# Altium footprint library NRF52832_Ball.PcbLib: 38 footprints (part 2 of 3)
Each footprint in its own frame and in the unit in brackets; x right, y up, seen from the top. Pads: shape width x height; smd on the part's side, far side on the other; paste and mask are expansions set on the pad; w line width, h text height; cw(c..) or ccw(c..) is an arc to the next point about the centre after c.
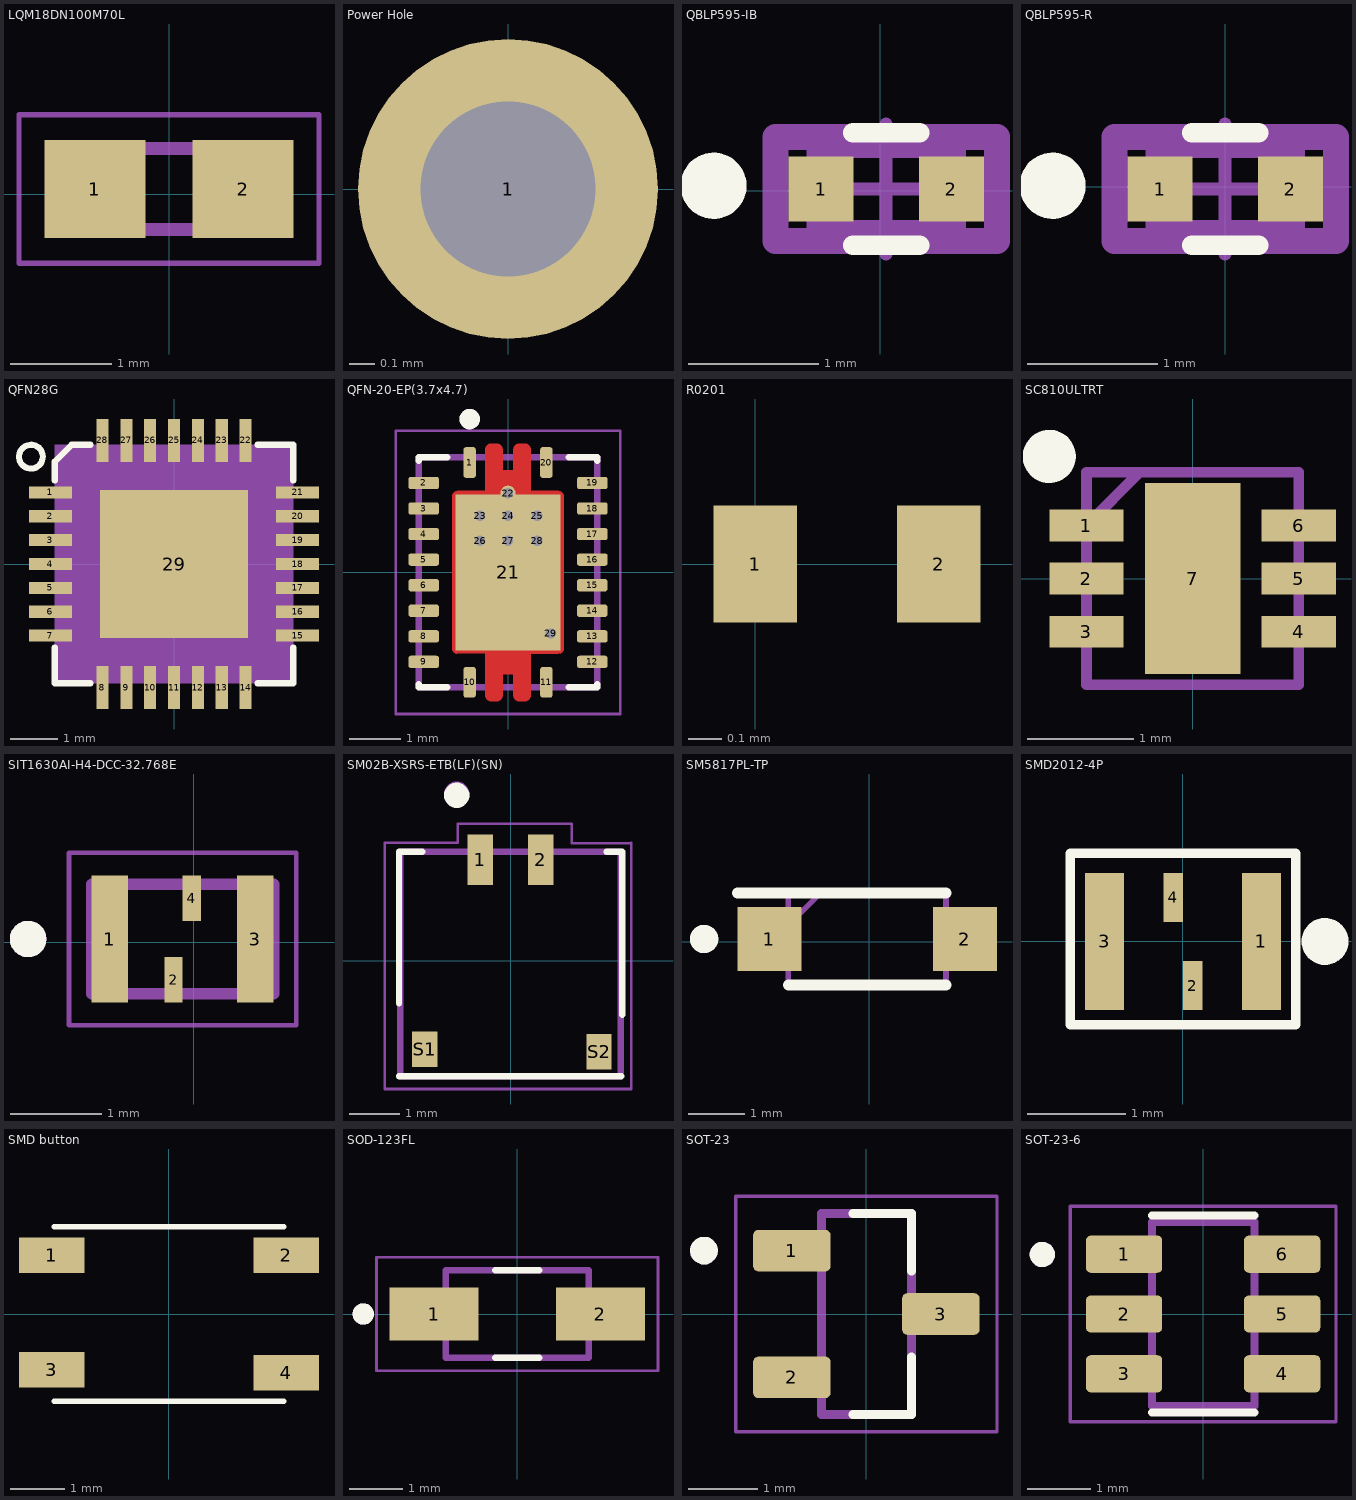
[diagram p1: the footprints below, top view; thin cyan lines are the x and y axes]

## LQM18DN100M70L [mm]
pads (2):
  rect 1x0.97 smd: 1(-0.735,0.054) 2(0.735,0.054)
Mechanical 13:
  lines w0.127: -0.8,-0.346 -0.8,0.454 0.8,0.454 0.8,-0.346 -0.8,-0.346
Mechanical 15:
  lines w0.05: -1.485,-0.681 1.485,-0.681 1.485,0.789 -1.485,0.789 -1.485,-0.681
3D body "step_temp.STEP": height 0.95, standoff 0, extent -0.8,-0.346 0.8,0.454

## Power Hole [mm]
pads (1):
  round 1.2 hole 0.7: 1(0,0)

## QBLP595-IB [mm]
pads (2):
  rect 0.5x0.5 smd paste+0 mask+0: 1(-0.454,0.014) 2(0.546,0.014)
Top Overlay:
  circle w0.254: c-1.279,0.039 r0.127
  lines w0.152: -0.208,-0.417 0.3,-0.417 ; -0.208,0.446 0.3,0.446
Mechanical 5:
  lines w0.2: -0.804,-0.386 0.896,-0.386 0.896,0.414 -0.804,0.414 -0.804,-0.386
Mechanical 13:
  lines w0.127: -0.504,-0.286 0.596,-0.286 0.596,0.314 -0.504,0.314 -0.504,-0.286
Mechanical 15:
  lines w0.2: -0.804,-0.386 0.896,-0.386 0.896,0.414 -0.804,0.414 -0.804,-0.386
Mechanical 16:
  lines w0.1: -0.454,0.014 0.546,0.014 ; 0.046,-0.486 0.046,0.514
3D body "QBLP595.step": height 0.5, standoff 0, extent -0.475,-0.236 0.525,0.264

## QBLP595-R [mm]
pads (2):
  rect 0.5x0.5 smd paste+0 mask+0: 1(-0.499,-0.016) 2(0.501,-0.016)
Top Overlay:
  circle w0.254: c-1.324,0.009 r0.127
  lines w0.152: -0.253,-0.448 0.255,-0.448 ; -0.253,0.416 0.255,0.416
Mechanical 5:
  lines w0.2: -0.849,-0.416 0.851,-0.416 0.851,0.384 -0.849,0.384 -0.849,-0.416
Mechanical 13:
  lines w0.127: -0.549,-0.316 0.551,-0.316 0.551,0.284 -0.549,0.284 -0.549,-0.316
Mechanical 15:
  lines w0.2: -0.849,-0.416 0.851,-0.416 0.851,0.384 -0.849,0.384 -0.849,-0.416
Mechanical 16:
  lines w0.1: -0.499,-0.016 0.501,-0.016 ; 0.001,-0.516 0.001,0.484
3D body "QBLP595.step": height 0.5, standoff 0, extent -0.52,-0.266 0.48,0.234

## QFN28G [mm]
pads (29):
  rect 0.9x0.254 smd: 1(-2.59,1.5) 2(-2.59,1) 3(-2.59,0.5) 4(-2.59,0) 5(-2.59,-0.5) 6(-2.59,-1) 7(-2.59,-1.5) 15(2.59,-1.5) 16(2.59,-1) 17(2.59,-0.5) 18(2.59,0) 19(2.59,0.5) 20(2.59,1) 21(2.59,1.5)
  rect 0.254x0.9 smd: 8(-1.5,-2.59) 9(-1,-2.59) 10(-0.5,-2.59) 11(0,-2.59) 12(0.5,-2.59) 13(1,-2.59) 14(1.5,-2.59) 22(1.5,2.59) 23(1,2.59) 24(0.5,2.59) 25(0,2.59) 26(-0.5,2.59) 27(-1,2.59) 28(-1.5,2.59)
  rect 3.1x3.1 smd paste-3: 29(0,0)
Top Overlay:
  circle w0.127: c-3,2.25 r0.25
  lines w0.127: -2.5,-1.75 -2.5,-2.5 -1.75,-2.5 ; -2.5,1.75 -2.5,2.146 -2.146,2.5 -1.75,2.5 ; 1.75,-2.5 2.5,-2.5 2.5,-1.75 ; 1.75,2.5 2.5,2.5 2.5,1.75
Top Paste:
  region: -0.25,0.25 -1.502,0.25 -1.502,1.5 -0.25,1.5
  region: 1.5,0.25 0.25,0.25 0.25,1.5 1.5,1.5
  region: -0.25,-1.503 -1.503,-1.503 -1.503,-0.25 -0.25,-0.25
  region: 1.5,-1.503 0.25,-1.503 0.25,-0.25 1.5,-0.25
Mechanical 15:
  region: 2.5,-2.505 -2.505,-2.505 -2.505,2.5 2.5,2.5
3D body "step_temp.STEP": height 1, standoff 0, extent -2.5,-2.5 2.5,2.5

## QFN-20-EP(3.7x4.7) [mm]
pads (29):
  rrect40% 0.24x0.6 smd: 1(-0.75,2.15) 10(-0.75,-2.15) 11(0.75,-2.15) 20(0.75,2.15)
  rrect40% 0.6x0.24 smd: 2(-1.65,1.75) 3(-1.65,1.25) 4(-1.65,0.75) 5(-1.65,0.25) 6(-1.65,-0.25) 7(-1.65,-0.75) 8(-1.65,-1.25) 9(-1.65,-1.75) 12(1.65,-1.75) 13(1.65,-1.25) 14(1.65,-0.75) 15(1.65,-0.25) 16(1.65,0.25) 17(1.65,0.75) 18(1.65,1.25) 19(1.65,1.75)
  rect 2.05x3.05 smd paste-3 mask+0: 21(0,0)
  round 0.3 hole 0.2 mask+0: 22(0,1.549) 23(-0.546,1.109) 24(0,1.109) 25(0.572,1.109) 26(-0.546,0.618) 27(0,0.618) 28(0.572,0.618) 29(0.838,-1.194)
Top Layer:
  region: 380 vertices and 0 holes, not listed, extent -1.095,-2.52 1.095,2.52
Top Overlay:
  circle w0.2: c-0.75,3 r0.1
  lines w0.127: -1.75,-2.19 -1.75,-2.25 -1.19,-2.25 ; -1.75,2.19 -1.75,2.25 -1.19,2.25 ; 1.19,-2.25 1.75,-2.25 1.75,-2.19 ; 1.19,2.25 1.75,2.25 1.75,2.19
Top Paste:
  drawing of 8 lines, arcs and shapes, not listed
Top Solder:
  drawing of 1 lines, arcs and shapes, not listed
Mechanical 13:
  circle w0.2: c-0.75,3 r0.1
  lines w0.127: -1.75,-2.25 1.75,-2.25 1.75,2.25 -1.75,2.25 -1.75,-2.25
Mechanical 15:
  lines w0.05: -2.2,-2.77 -2.2,2.77 2.2,2.77 2.2,-2.77 -2.2,-2.77
3D body "step_temp.STEP": height 1, standoff 0, extent -1.75,-2.25 1.75,2.25

## R0201 [mm]
pads (2):
  rect 0.25x0.35 smd: 1(0,0) 2(0.55,0)
3D body "RES0201.STEP": height 0.23, standoff 0, extent 0,-0.15 0.6,0.15

## SC810ULTRT [mm]
pads (7):
  rect 0.7x0.3 smd: 1(-1,0.5) 2(-1,0) 3(-1,-0.5) 4(1,-0.5) 5(1,0) 6(1,0.5)
  rect 0.9x1.8 smd: 7(0,0)
Top Overlay:
  circle w0.25: c-1.35,1.15 r0.125
Mechanical 15:
  lines w0.1: -1,0.5 -0.5,1 ; -1,-1 1,-1 1,1 -1,1 -1,-1
3D body "SC810ULTRT.stp": height 0.6, standoff 0, extent -1.05,-1 1.05,1

## SIT1630AI-H4-DCC-32.768E [mm]
pads (4):
  rect 0.4x1.4 smd: 1(-0.924,0.035) 3(0.676,0.035)
  rect 0.2x0.5 smd: 2(-0.224,-0.415) 4(-0.024,0.485)
Top Overlay:
  circle w0.2: c-1.824,0.035 r0.1
Mechanical 13:
  circle w0.2: c-1.824,0.035 r0.1
  lines w0.127: -1.124,-0.565 0.876,-0.565 0.876,0.635 -1.124,0.635 -1.124,-0.565
Mechanical 15:
  lines w0.05: -1.374,-0.915 -1.374,0.985 1.126,0.985 1.126,-0.915 -1.374,-0.915

## SM02B-XSRS-ETB(LF)(SN) [mm]
pads (4):
  rect 0.5x1 smd: 1(-0.6,2) 2(0.6,2)
  rect 0.5x0.7 smd: S1(-1.702,-1.753) S2(1.753,-1.803)
Top Overlay:
  circle w0.3: c-1.067,3.277 r0.1
  lines w0.127: -2.21,-2.286 2.19,-2.286 ; -2.21,-0.838 -2.21,2.159 -1.753,2.159 ; 1.9,2.159 2.21,2.159 2.21,-1.067
Mechanical 13:
  circle w0.3: c-1.067,3.302 r0.1
  lines w0.127: -2.184,-2.286 -2.184,2.159 2.184,2.159 2.184,-2.286 -2.184,-2.286
Mechanical 15:
  lines w0.05: 1.212,2.332 1.571,2.332 2.388,2.332 ; 1.212,2.337 1.212,2.718 -1.041,2.718 -1.041,2.337 -2.489,2.337 -2.489,-2.54 2.388,-2.54 2.388,2.337
3D body "BM02B-ACHSS-GAN-TF-LF--SN---3DModel-STEP-269445.STEP": height 1.45, standoff 0, extent -2.1,-2.15 2.1,2.15

## SM5817PL-TP [mm]
pads (2):
  rect 1.15x1.15 smd: 1(-1.79,0.051) 2(1.71,0.051)
Top Overlay:
  circle w0.254: c-2.961,0.051 r0.127
  lines w0.2: -2.365,0.876 1.372,0.876 ; -1.452,-0.774 1.372,-0.774
Mechanical 15:
  lines w0.1: -1.452,0.301 -0.878,0.876 ; -1.452,-0.774 -1.452,0.876 1.372,0.876 1.372,-0.774 -1.452,-0.774
3D body "SM5817PL-TP.stp": height 1.2, standoff 0, extent -1.89,-0.838 1.81,0.812

## SMD2012-4P [mm] "32.768KHZ"
pads (4):
  rect 0.4x1.4 smd: 1(0.8,0) 3(-0.8,0)
  rect 0.2x0.5 smd: 2(0.1,-0.45) 4(-0.1,0.45)
Top Overlay:
  circle w0.254: c1.45,0 r0.112
  lines w0.1: -1.15,-0.85 -1.15,0.9 1.15,0.9 1.15,-0.85 -1.15,-0.85

## SMD button [mm]
pads (4):
  rect 1.2x0.65 smd: 1(-2.15,1.075) 2(2.15,1.075) 3(-2.15,-1.025) 4(2.15,-1.075)
Top Overlay:
  lines w0.1: -2.1,-1.6 2.1,-1.6 ; -2.1,1.6 2.1,1.6

## SOD-123FL [mm] "Diode Schottky 20 V 1A Surface Mount"
pads (2):
  rect 1.68x1.01 smd: 1(-1.57,0) 2(1.57,0)
Top Overlay:
  circle w0.2: c-2.91,0 r0.1
  lines w0.127: -0.41,-0.825 0.41,-0.825 ; -0.41,0.825 0.41,0.825
Mechanical 13:
  circle w0.2: c-2.91,0 r0.1
  lines w0.127: -1.35,-0.825 -1.35,0.825 1.35,0.825 1.35,-0.825 -1.35,-0.825
Mechanical 15:
  lines w0.05: -2.66,-1.075 -2.66,1.075 2.66,1.075 2.66,-1.075 -2.66,-1.075
3D body "step_temp.STEP": height 1.3, standoff 0, extent -1.958,-0.881 1.742,0.919

## SOT-23 [mm]
pads (3):
  rrect25% 1.12x0.6 smd: 1(-1.075,0.915) 2(-1.075,-0.915) 3(1.075,0)
Top Overlay:
  circle w0.2: c-2.345,0.915 r0.1
  lines w0.127: -0.195,-1.45 0.65,-1.45 0.65,-0.62 ; -0.195,1.45 0.65,1.45 0.65,0.62
Mechanical 13:
  circle w0.2: c-2.345,0.915 r0.1
  lines w0.127: -0.65,-1.45 0.65,-1.45 0.65,1.45 -0.65,1.45 -0.65,-1.45
Mechanical 15:
  lines w0.05: -1.885,-1.7 -1.885,1.7 1.885,1.7 1.885,-1.7 -1.885,-1.7
3D body "step_temp.STEP": height 1.1, standoff 0, extent -1.2,-1.45 1.2,1.45

## SOT-23-6 [mm] "SMD 6 pin IC"
pads (6):
  rrect25% 1.21x0.59 smd: 1(-1.255,0.95) 2(-1.255,0) 3(-1.255,-0.95) 4(1.255,-0.95) 5(1.255,0) 6(1.255,0.95)
Top Overlay:
  circle w0.2: c-2.555,0.945 r0.1
  lines w0.127: -0.813,-1.565 0.813,-1.565 ; -0.813,1.565 0.813,1.565
Mechanical 13:
  circle w0.2: c-2.555,0.945 r0.1
  lines w0.127: -0.813,-1.462 0.813,-1.462 0.813,1.462 -0.813,1.462 -0.813,-1.462
Mechanical 15:
  lines w0.05: -2.11,-1.713 -2.11,1.713 2.11,1.713 2.11,-1.713 -2.11,-1.713
3D body "step_temp.STEP": height 0.4, standoff -1.05, extent -1.4,-1.462 1.4,1.462